# Altium footprint library KN2CLib.PcbLib: 142 footprints (part 3 of 9)
Each footprint in its own frame and in the unit in brackets; x right, y up, seen from the top. Pads: shape width x height; smd on the part's side, far side on the other; paste and mask are expansions set on the pad; w line width, h text height; cw(c..) or ccw(c..) is an arc to the next point about the centre after c.
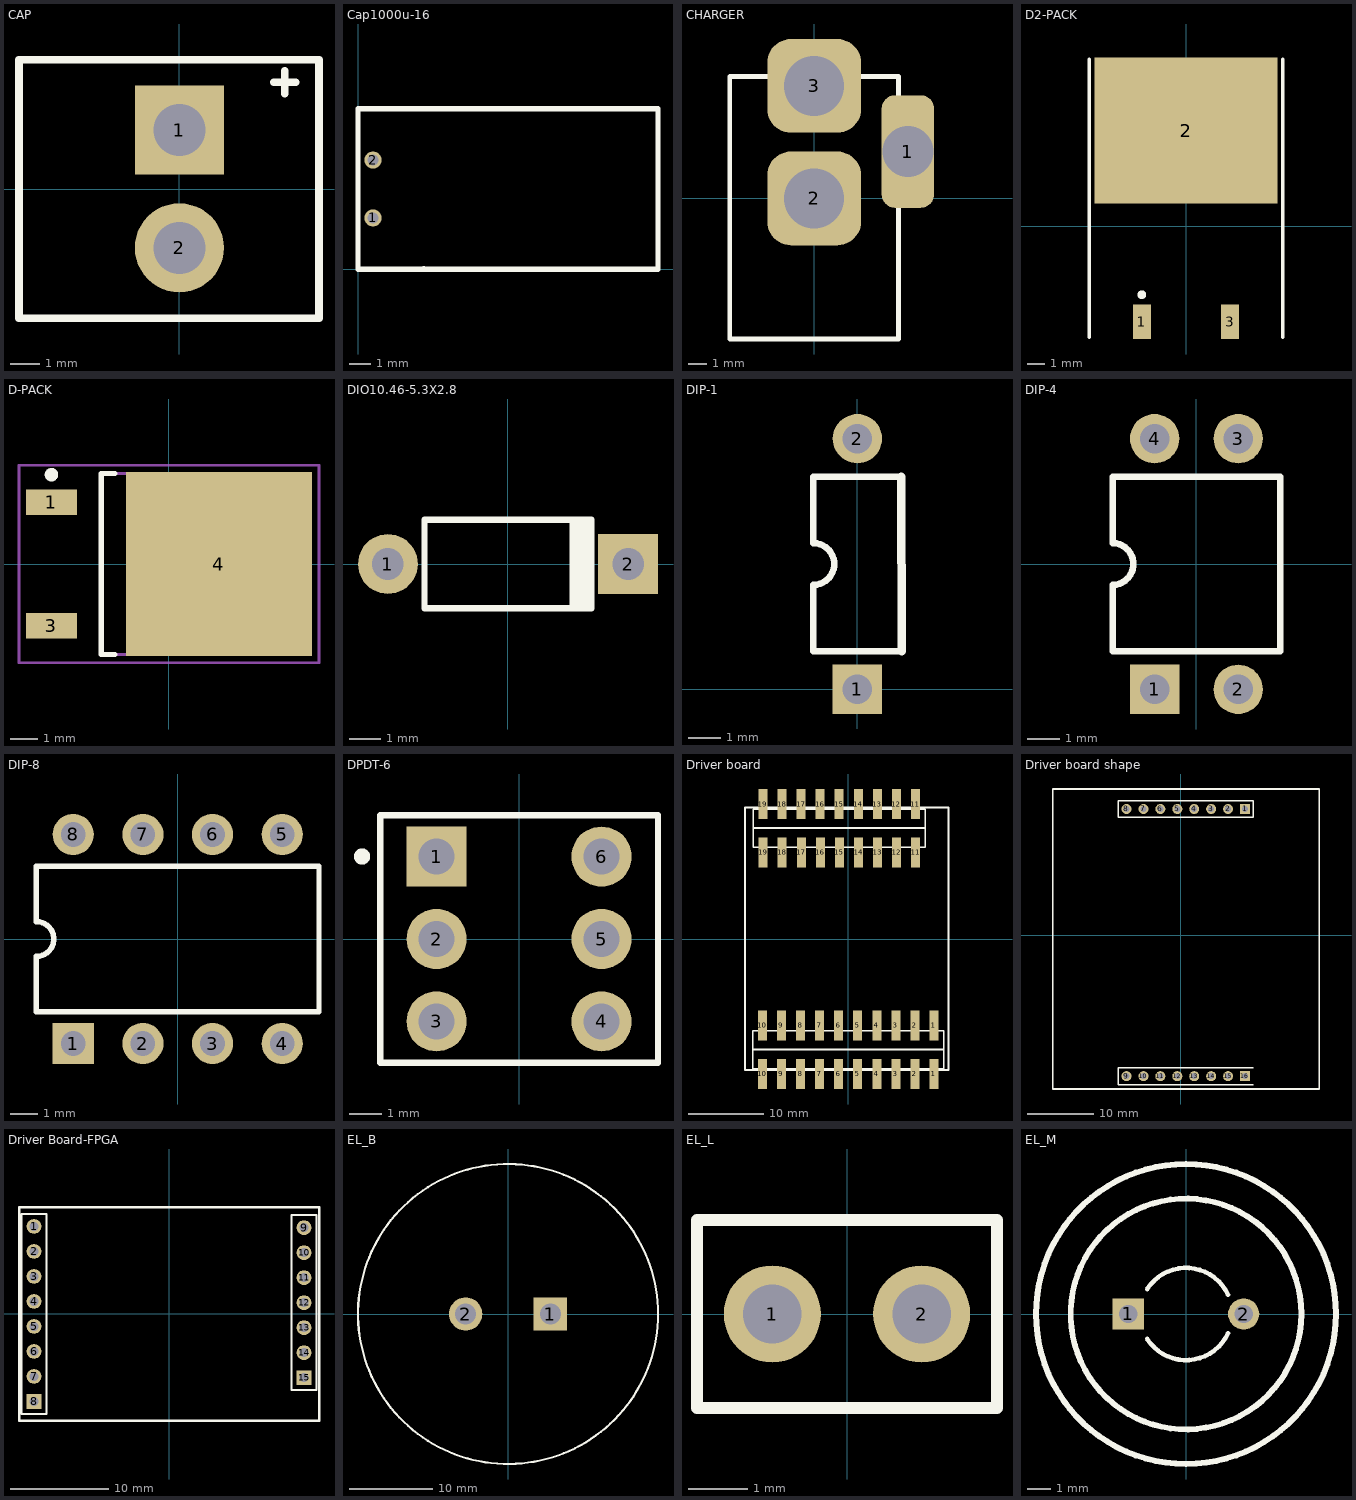
[diagram p2: the footprints below, top view; thin cyan lines are the x and y axes]

## CAP [mm]
pads (2):
  rect 3x3 hole 1.75: 1(0,1.98)
  round 3 hole 1.75: 2(0,-1.98)
Top Overlay:
  lines w0.254: 3.185,3.597 3.912,3.597 ; 3.548,3.2 3.548,3.978 ; -5.4,-4.355 4.7,-4.355 4.7,4.355 -5.4,4.355 -5.4,-4.355
3D body: height 12.5, standoff 0, extent -5.525,-4.5 4.825,4.475

## Cap1000u-16 [mm]
pads (2):
  round 0.8 hole 0.5: 1(0.7,2.4) 2(0.7,5.1)
Top Overlay:
  lines w0.254: 3.048,0 3.073,0.025 ; 0,0 0,7.5 14,7.5 14,0 0,0

## CHARGER [mm]
pads (3):
  rrect50% 2.8x6 hole 2.7: 1(5,2.5)
  rrect50% 5x5 hole 3.2: 2(0,0) 3(0,6)
Top Overlay:
  lines w0.254: -4.5,-7.5 -4.5,6.5 4.5,6.5 4.5,-7.5 -4.5,-7.5
3D body: height 11.6, standoff 0, extent -4.625,-7.6 4.6,6.6

## D2-PACK [mm] "D2-PAK/TO-263-AB; 3 Leads (1 Cropped); Body 15.5 (inc. leads) x 10.5 mm (LxW max)"
height 4.69
pads (3):
  rect 1.05x2 smd: 1(-2.54,-5.5) 3(2.54,-5.5)
  rect 10.55x8.4 smd: 2(0,5.5)
Top Overlay:
  circle w0.25: c-2.54,-3.95 r0.125
  lines w0.2: -5.575,-6.4 -5.575,9.6 ; 5.575,-6.4 5.575,9.6
3D body: height 2.38, standoff 0, extent -5.675,-2.2 5.7,9.75

## D-PACK [mm] "D-PAK, 3-Pads, Body 6.2x6.7mm (max), IPC Medium Density"
height 2.38
pads (3):
  rect 1.9x0.95 smd: 1(-4.35,2.28) 3(-4.35,-2.28)
  rect 6.9x6.8 smd: 4(1.85,0)
Top Overlay:
  circle w0.25: c-4.35,3.305 r0.125
  lines w0.2: -2,-3.35 -2.5,-3.35 -2.5,3.35 -2,3.35
Mechanical 13:
  lines w0.1: -2.5,-3.35 3.7,-3.35 3.7,3.35 -2.5,3.35 -2.5,-3.35
Mechanical 15:
  lines w0.1: -0.5,0 0.5,0 ; 0,-0.5 0,0.5 ; -5.55,-3.65 5.55,-3.65 5.55,3.65 -5.55,3.65 -5.55,-3.65
3D body: height 2.38, standoff 0, extent -2.5,-3.35 3.7,3.35

## DIO10.46-5.3X2.8 [mm]
pads (2):
  round 1.9 hole 1: 1(-3.81,0)
  rect 1.9x1.9 hole 1: 2(3.81,0)
Top Overlay:
  rectangle: 1.95,-1.4 2.75,1.4
  lines w0.2: 2.65,-1.4 -2.65,-1.4 -2.65,1.4 2.65,1.4
3D body: height 3.3, standoff 0, extent -2.75,-1.5 2.75,1.5

## DIP-1 [mm] "DIP; 8 Leads; Row Spacing 7.62 mm; Pitch 2.54 mm"
height 5.08
pads (2):
  rect 1.5x1.5 hole 0.9: 1(0,0)
  round 1.5 hole 0.9: 2(0,7.62)
Top Overlay:
  lines w0.2: 1.333,6.46 -1.34,6.46 -1.34,4.445 cw(c-1.34,3.81) -1.34,3.175 -1.34,1.16 1.344,1.16
  lines w0.254: 1.333,6.46 1.344,1.16
3D body: height 6.8, standoff 0, extent -1.425,1.05 1.475,6.575

## DIP-4 [mm] "DIP; 4 Leads; Row Spacing 7.62 mm; Pitch 2.54 mm"
height 5.6
pads (4):
  rect 1.5x1.5 hole 0.9: 1(-1.27,-3.81)
  round 1.5 hole 0.9: 2(1.27,-3.81) 3(1.27,3.81) 4(-1.27,3.81)
Top Overlay:
  lines w0.2: -2.55,-2.65 2.55,-2.65 2.55,2.65 -2.55,2.65 -2.55,0.635 cw(c-2.55,0) -2.55,-0.635 -2.55,-2.65
3D body: height 6.8, standoff 0, extent -2.65,-2.75 2.675,2.75

## DIP-8 [mm] "DIP; 8 Leads; Row Spacing 7.62 mm; Pitch 2.54 mm"
height 5.08
pads (8):
  rect 1.5x1.5 hole 0.9: 1(-3.81,-3.81)
  round 1.5 hole 0.9: 2(-1.27,-3.81) 3(1.27,-3.81) 4(3.81,-3.81) 5(3.81,3.81) 6(1.27,3.81) 7(-1.27,3.81) 8(-3.81,3.81)
Top Overlay:
  lines w0.2: -5.15,-2.65 5.15,-2.65 5.15,2.65 -5.15,2.65 -5.15,0.635 cw(c-5.15,0) -5.15,-0.635 -5.15,-2.65
3D body: height 6.8, standoff 0, extent -5.275,-2.75 5.225,2.775

## DPDT-6 [mm] "Double-Pole, Double-Throw Switch; 6 Leads"
pads (6):
  rect 1.85x1.85 hole 1.1: 1(-2.54,2.54)
  round 1.85 hole 1.1: 2(-2.54,0) 3(-2.54,-2.54) 4(2.54,-2.54) 5(2.54,0) 6(2.54,2.54)
Top Overlay:
  circle w0.25: c-4.836,2.541 r0.125
  lines w0.2: -4.28,-3.81 -4.28,3.81 4.28,3.81 4.28,-3.81 -4.28,-3.81

## Driver board [mm]
pads (38):
  rect 1.2x4 smd: 1(11.43,-17.982) 1(11.43,-11.52) 2(8.89,-17.982) 2(8.89,-11.52) 3(6.35,-11.52) 3(6.35,-17.982) 4(3.81,-17.982) 4(3.81,-11.52) 5(1.27,-17.982) 5(1.27,-11.52) 6(-1.27,-11.52) 6(-1.27,-17.982) 7(-3.81,-17.982) 7(-3.81,-11.52) 8(-6.35,-17.982) 8(-6.35,-11.52) 9(-8.89,-11.52) 9(-8.89,-17.982) 10(-11.43,-17.982) 10(-11.43,-11.52) 11(8.966,17.982) 11(8.997,11.525) 12(6.426,17.982) 12(6.457,11.525) 13(3.886,17.982) 13(3.917,11.525) 14(1.346,17.982) 14(1.377,11.525) 15(-1.194,17.982) 15(-1.163,11.525) 16(-3.734,17.982) 16(-3.703,11.525) 17(-6.274,17.982) 17(-6.243,11.525) 18(-8.814,17.982) 18(-8.783,11.525) 19(-11.354,17.982) 19(-11.323,11.525)
Top Overlay:
  lines w0.2: -12.593,14.798 10.217,14.798 10.236,14.817 10.236,17.295 -12.624,17.295 -12.624,14.755 10.239,14.755 10.239,12.212 -12.626,12.212 -12.626,14.752 10.239,14.752 ; -12.7,-17.252 -12.7,-14.712 12.7,-14.712 12.7,-17.252 10.795,-17.252 -12.7,-17.252 ; -12.7,-14.783 10.795,-14.783 12.7,-14.783 12.7,-12.243 -12.7,-12.243 -12.7,-14.783
  lines w0.254: -13.745,17.542 13.36,17.542 ; -13.745,17.545 -13.745,-17.455 13.36,-17.455 13.36,17.545

## Driver board shape [mm]
pads (16):
  rect 1.5x1.5 hole 0.9: 1(9.627,18.946) 16(9.591,-21.133)
  round 1.5 hole 0.9: 2(7.087,18.946) 3(4.547,18.946) 4(2.007,18.946) 5(-0.533,18.946) 6(-3.073,18.946) 7(-5.613,18.946) 8(-8.153,18.946) 9(-8.153,-21.133) 10(-5.613,-21.133) 11(-3.073,-21.133) 12(-0.533,-21.133) 13(2.007,-21.133) 14(4.547,-21.133) 15(7.087,-21.133)
Top Overlay:
  lines w0.2: 10.897,-22.403 -9.423,-22.403 -9.423,-19.863 10.897,-19.863 ; -9.423,17.676 10.897,17.676 10.897,20.216 -9.423,20.216 -9.423,17.676
  lines w0.254: -19.228,-23.054 20.772,-23.054 20.772,21.946 -19.228,21.946 -19.228,-23.054
Bottom Overlay:
  lines w0.2: 10.897,-22.403 10.897,-19.863

## Driver Board-FPGA [mm]
pads (15):
  round 1.5 hole 0.9: 1(-13.716,8.89) 2(-13.716,6.35) 3(-13.716,3.81) 4(-13.716,1.27) 5(-13.716,-1.27) 6(-13.716,-3.81) 7(-13.716,-6.35) 9(13.716,8.763) 10(13.716,6.223) 11(13.716,3.683) 12(13.716,1.143) 13(13.716,-1.397) 14(13.716,-3.937)
  rect 1.5x1.5 hole 0.9: 8(-13.716,-8.89) 15(13.716,-6.477)
Top Overlay:
  lines w0.2: -14.986,-10.16 -14.986,10.16 -12.446,10.16 -12.446,-10.16 -14.986,-10.16 ; 12.446,-7.747 14.986,-7.747 14.986,10.033 12.446,10.033 12.446,-7.747
  lines w0.254: -15.24,-10.86 -15.24,10.84 15.24,10.84 15.24,-10.86 -15.24,-10.86

## EL_B [mm]
pads (2):
  rect 4x4 hole 2.5: 1(5.08,0)
  round 4 hole 2.5: 2(-5.08,0)
Top Overlay:
  circle w0.254: c0,0 r18
3D body: height 15, standoff 0, extent -17.975,-18.025 17.975,17.9

## EL_L [mm]
pads (2):
  round 1.65 hole 1: 1(-1.27,0) 2(1.27,0)
Top Overlay:
  lines w0.2: -2.55,-1.6 -2.55,1.6 2.55,1.6 2.55,-1.6 -2.55,-1.6
3D body: height 4.5, standoff 0, extent -2.625,-1.7 2.65,1.675

## EL_M [mm]
pads (2):
  rect 1.35x1.35 hole 0.8: 1(-2.5,0)
  round 1.35 hole 0.8: 2(2.5,0)
Top Overlay:
  circle w0.254: c0,0 r6.5
  circle w0.254: c0,0 r5
  lines w0.2: -1.687,-1.075 ccw(c0,0) 1.819,-0.832 ; -1.687,1.075 cw(c0,0) 1.819,0.832
3D body: height 21, standoff 0, extent -6.475,-6.5 6.5,6.5
3D body: height 17, standoff 0, extent -1.925,-2 1.975,2.025
3D body: height 16, standoff 0, extent -5,-5 5,4.975